# EAGLE library part MSP430 (library 00_cody)
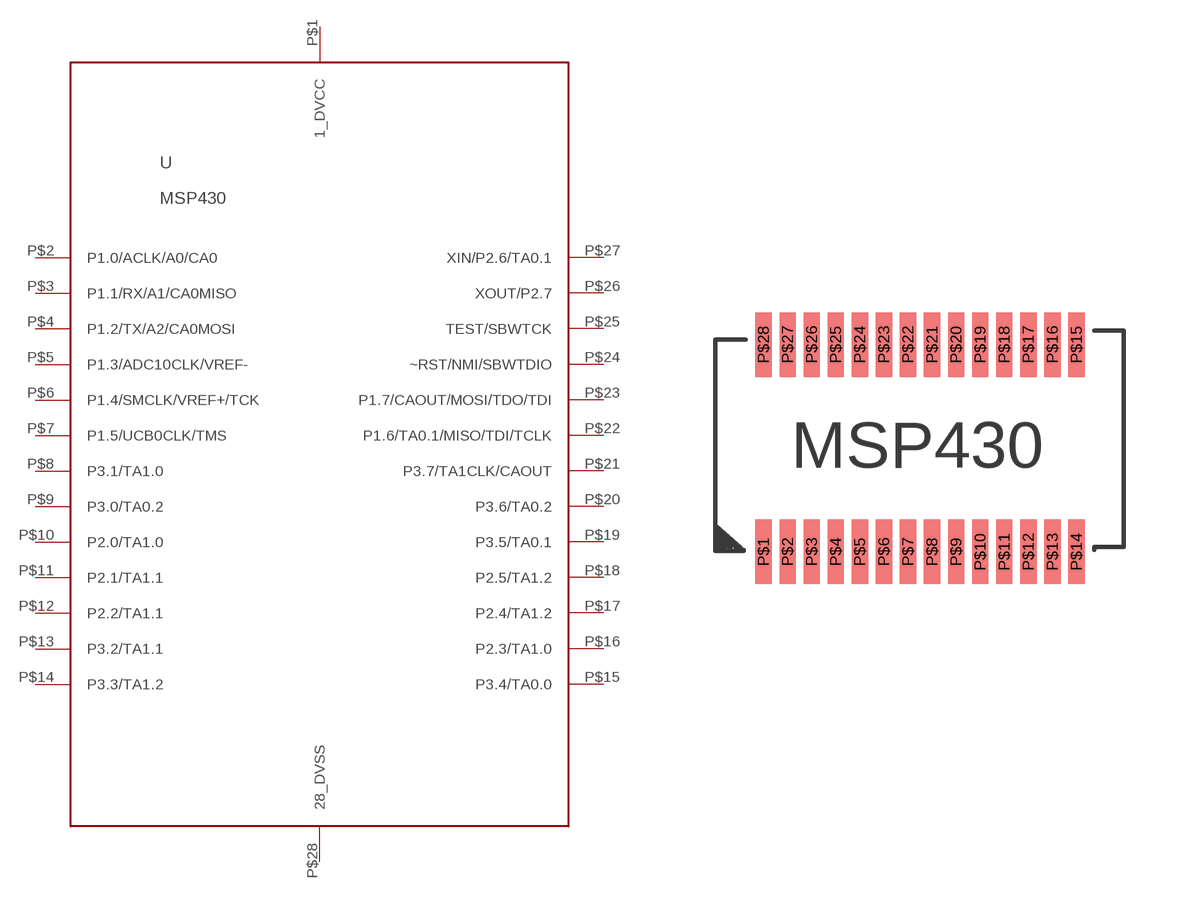
[diagram p148: symbol with the pads of MSP430G2553; footprint MSP430G2553]

Designator prefix -

## MSP430MSP  [MSP430G2553]
P$1  1_DVCC
P$2  P1.0/ACLK/A0/CA0
P$3  P1.1/RX/A1/CA0MISO
P$4  P1.2/TX/A2/CA0MOSI
P$5  P1.3/ADC10CLK/VREF-
P$6  P1.4/SMCLK/VREF+/TCK
P$7  P1.5/UCB0CLK/TMS
P$8  P3.1/TA1.0
P$9  P3.0/TA0.2
P$10  P2.0/TA1.0
P$11  P2.1/TA1.1
P$12  P2.2/TA1.1
P$13  P3.2/TA1.1
P$14  P3.3/TA1.2
P$15  P3.4/TA0.0
P$16  P2.3/TA1.0
P$17  P2.4/TA1.2
P$18  P2.5/TA1.2
P$19  P3.5/TA0.1
P$20  P3.6/TA0.2
P$21  P3.7/TA1CLK/CAOUT
P$22  P1.6/TA0.1/MISO/TDI/TCLK
P$23  P1.7/CAOUT/MOSI/TDO/TDI
P$24  ~RST/NMI/SBWTDIO
P$25  TEST/SBWTCK
P$26  XOUT/P2.7
P$27  XIN/P2.6/TA0.1
P$28  28_DVSS

## Footprint MSP430G2553 (pad centres in mm)
smd 0.44 x 1.74: P$1 0,0; P$2 0.65,0; P$3 1.3,0; P$4 1.95,0; P$5 2.6,0; P$6 3.25,0; P$7 3.9,0; P$8 4.55,0; P$9 5.2,0; P$10 5.85,0; P$11 6.5,0; P$12 7.15,0; P$13 7.8,0; P$14 8.45,0; P$15 8.45,5.6; P$16 7.8,5.6; P$17 7.15,5.6; P$18 6.5,5.6; P$19 5.85,5.6; P$20 5.2,5.6; P$21 4.55,5.6; P$22 3.9,5.6; P$23 3.25,5.6; P$24 2.6,5.6; P$25 1.95,5.6; P$26 1.3,5.6; P$27 0.65,5.6; P$28 0,5.6